# Altium footprint library WS100.PcbLib: 58 footprints (part 2 of 4)
Each footprint in its own frame and in the unit in brackets; x right, y up, seen from the top. Pads: shape width x height; smd on the part's side, far side on the other; paste and mask are expansions set on the pad; w line width, h text height; cw(c..) or ccw(c..) is an arc to the next point about the centre after c.
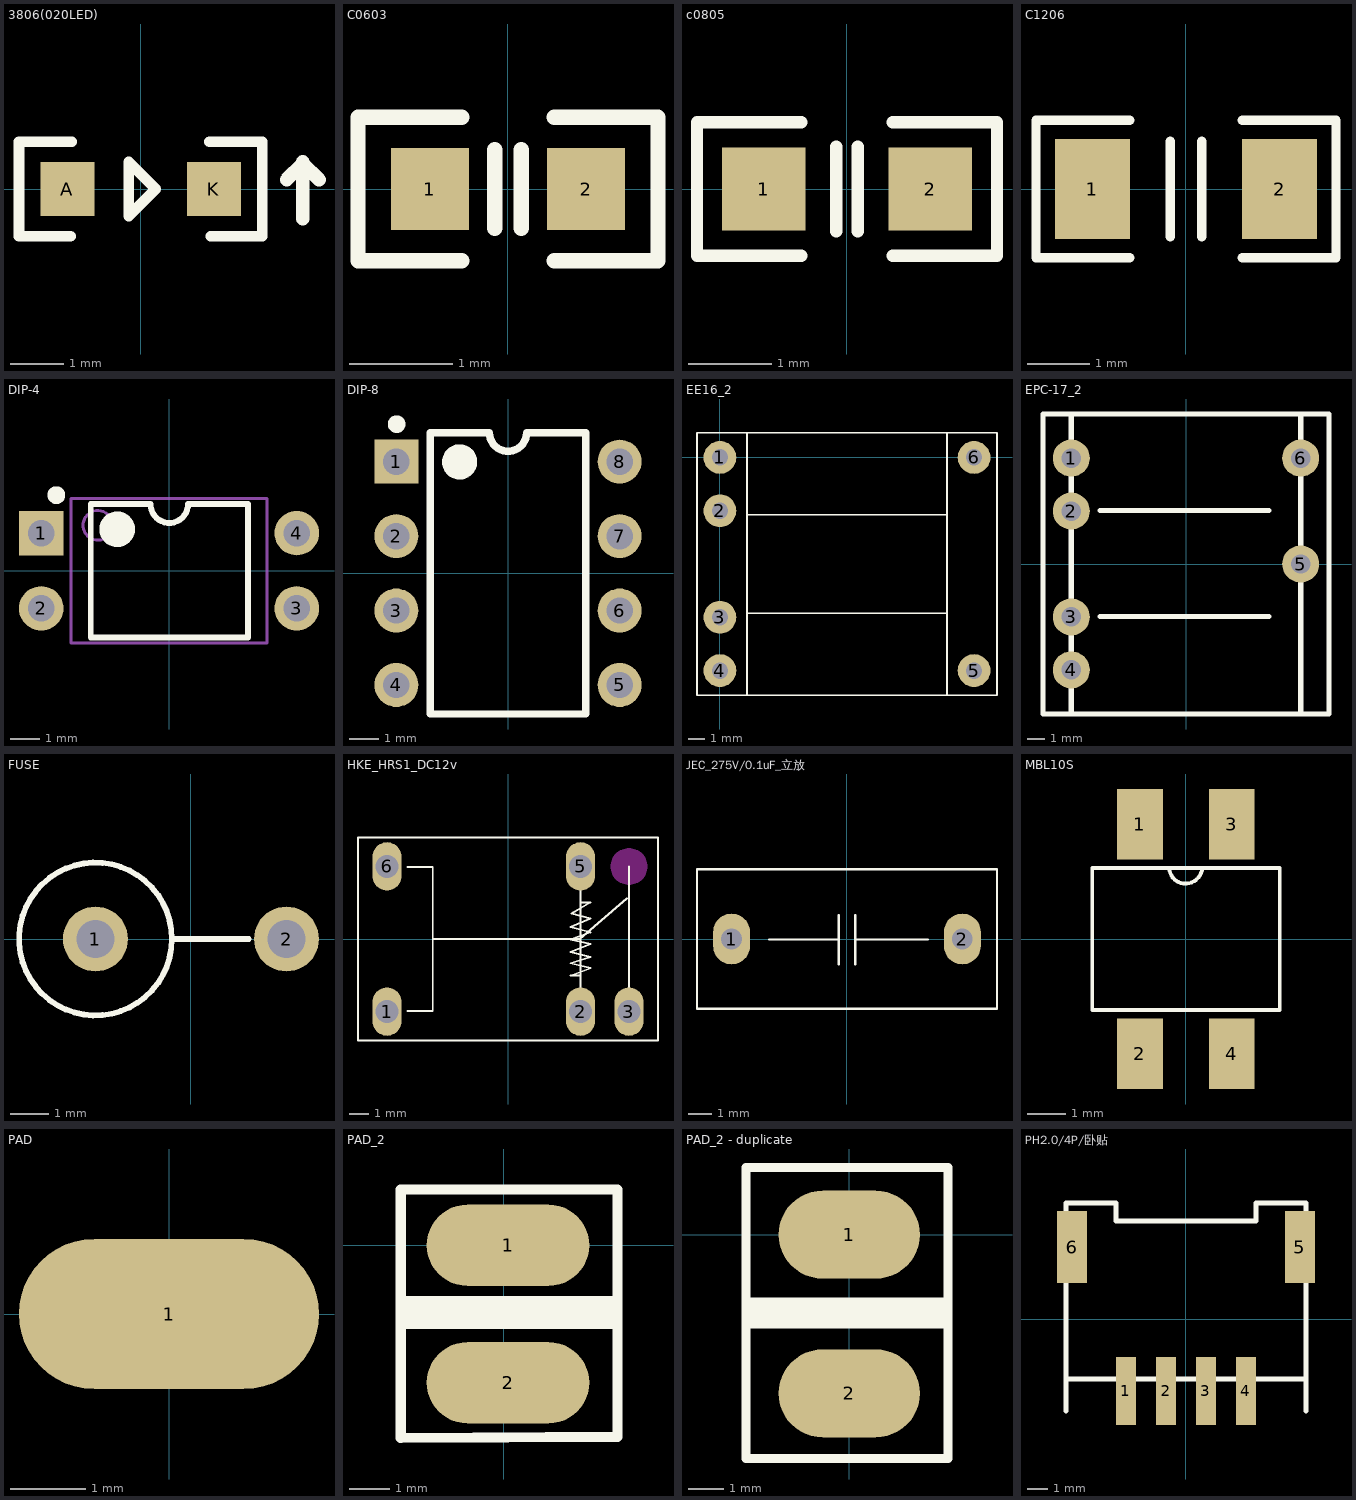
[diagram p1: the footprints below, top view; thin cyan lines are the x and y axes]

## 3806(020LED) [mil]
pads (2):
  rect 40x40 smd: A(-54.13,0) K(54.13,0)
Top Overlay:
  lines w7.87: -51.87,-35 -90,-35 -90,35 -50.87,35 ; 50.87,35 90,35 90,-35 51.87,-35 ; -8.87,-20 -8.87,20 11.13,0 -8.87,-20
  lines w10: 107.87,7 119.87,19 ; 119.87,-22 119.87,20 119.87,19 ; 131.87,7 119.87,19

## C0603 [mm]
pads (2):
  rect 0.76x0.8 smd: 1(-0.76,0) 2(0.76,0)
Top Overlay:
  lines w0.15: -0.45,-0.7 -1.46,-0.7 -1.46,0.7 -0.45,0.7 ; -0.127,-0.381 -0.127,0.381 ; 0.127,-0.381 0.127,0.381 ; 0.45,-0.7 1.46,-0.7 1.46,0.7 0.45,0.7

## c0805 [mm]
pads (2):
  rect 1x1 smd: 1(-1,0) 2(1,0)
Top Overlay:
  lines w0.15: -0.55,-0.8 -1.8,-0.8 -1.8,0.8 -0.55,0.8 ; -0.127,-0.508 -0.127,0.508 ; 0.127,-0.508 0.127,0.508 ; 0.55,-0.8 1.8,-0.8 1.8,0.8 0.55,0.8

## C1206 [mm]
pads (2):
  rect 1.2x1.6 smd: 1(-1.5,0) 2(1.5,0)
Top Overlay:
  lines w0.15: -0.9,-1.1 -2.4,-1.1 -2.4,1.1 -0.9,1.1 ; -0.254,-0.762 -0.254,0.762 ; 0.254,-0.762 0.254,0.762 ; 0.9,-1.1 2.4,-1.1 2.4,1.1 0.9,1.1

## DIP-4 [mm]
pads (4):
  rect 1.5x1.5 hole 0.9: 1(-4.31,1.27)
  round 1.5 hole 0.9: 2(-4.31,-1.27) 3(4.31,-1.27) 4(4.31,1.27)
Top Overlay:
  circle w0.3: c-3.8,2.55 r0.15
  circle w0.6: c-1.75,1.4 r0.3
  lines w0.2: -2.64,-2.25 2.66,-2.25 2.66,2.25 0.645,2.25 cw(c0.01,2.25) -0.625,2.25 -2.64,2.25 -2.64,-2.25
Mechanical 13:
  circle w0.1: c-2.4,1.53 r0.5
  lines w0.1: -3.3,-2.43 -3.3,2.43 3.3,2.43 3.3,-2.43 ; -3.29,-2.43 3.31,-2.43

## DIP-8 [mm]
pads (8):
  rect 1.5x1.5 hole 0.9: 1(-3.81,3.81)
  round 1.5 hole 0.9: 2(-3.81,1.27) 3(-3.81,-1.27) 4(-3.81,-3.81) 5(3.81,-3.81) 6(3.81,-1.27) 7(3.81,1.27) 8(3.81,3.81)
Top Overlay:
  circle w0.6: c-1.65,3.8 r0.3
  circle w0.3: c-3.8,5.09 r0.15
  lines w0.254: -2.65,-4.8 2.65,-4.8 2.65,4.8 0.635,4.8 cw(c0,4.8) -0.635,4.8 -2.65,4.8 -2.65,-4.8
3D body "SW3dPS-DIP08-300.STEP": height 5.08, standoff -2.49, extent -3.935,-5.46 3.935,5.46

## EE16_2 [mm]
pads (6):
  round 2 hole 1: 1(0,0) 2(0,-3.25) 3(0,-9.75) 4(0,-13) 5(15.5,-13) 6(15.5,0)
Top Overlay:
  lines w0.1: 1.651,-14.478 1.651,1.5 1.778,1.5 ; 1.651,-9.495 13.843,-9.495 ; 1.651,-3.505 13.843,-3.505 ; 13.849,-14.478 13.849,1.5 ; -1.4,-14.5 0,-14.5 15.5,-14.5 16.9,-14.5 16.9,0 16.9,1.5 -1.4,1.5 -1.4,-14.5

## EPC-17_2 [mm]
pads (6):
  round 2.1 hole 1.1: 1(-6.5,6) 2(-6.5,3) 3(-6.5,-3) 4(-6.5,-6) 5(6.5,0) 6(6.5,6)
Top Overlay:
  lines w0.1: -6.5,6 -6.068,6
  lines w0.3: -6.602,-8.5 6.5,-8.5 ; -4.874,-2.972 4.701,-2.972 ; -4.874,3.028 4.701,3.028 ; -6.5,8.5 6.5,8.5 ; -6.5,8.5 -8.1,8.5 -8.1,-8.5 -6.5,-8.5 -6.5,0 -6.5,8.5 ; 6.5,-8.5 8.1,-8.5 8.1,8.5 6.5,8.5 ; 6.5,-8.5 6.5,0 6.5,8.5

## FUSE [mm]
pads (2):
  round 1.7 hole 1: 1(-2.5,0) 2(2.5,0)
Top Overlay:
  circle w0.15: c-2.5,0 r2
  lines w0.15: -0.5,0 1.513,0

## HKE_HRS1_DC12v [mm]
pads (5):
  oval 1.5x2.5 hole 1.2: 1(-6.25,-3.75) 2(3.75,-3.75) 3(6.25,-3.75) 5(3.75,3.75) 6(-6.25,3.75)
Top Overlay:
  lines w0.1: -5.183,-3.725 -3.888,-3.725 -3.888,3.725 -5.183,3.725 ; -3.888,0 3.716,0 6.145,2.092 ; 3.75,-3.75 3.75,3.75 ; 3.75,-1.896 3.234,-1.896 4.266,-1.508 3.234,-1.254 4.266,-0.924 3.234,-0.67 4.266,-0.263 3.234,-0.035 4.266,0.346 3.234,0.626 4.266,1.058 3.275,1.312 4.266,1.896 3.75,1.896 ; 6.25,-3.75 6.25,3.747 ; -7.75,-5.25 7.75,-5.25 7.75,5.25 -7.75,5.25 -7.75,-5.25
Keep-Out Layer:
  board cut-out: 5.314,3.747 5.314,3.655 5.35,3.474 5.421,3.304 5.523,3.15 5.654,3.02 5.807,2.918 5.977,2.847 6.158,2.811 6.25,2.811 6.342,2.811 6.523,2.847 6.693,2.918 6.846,3.02 6.977,3.15 7.079,3.304 7.15,3.474 7.186,3.655 7.186,3.747 7.186,3.839 7.15,4.02 7.079,4.19 6.977,4.343 6.846,4.474 6.693,4.576 6.523,4.646 6.342,4.682 6.25,4.682 6.158,4.682 5.977,4.646 5.807,4.576 5.654,4.474 5.523,4.343 5.421,4.19 5.35,4.02 5.314,3.839

## JEC_275V/0.1uF_立放 [mm]
pads (2):
  oval 1.6x2.2 hole 0.9: 1(-5,0) 2(5,0)
Top Overlay:
  lines w0.1: -3.378,-0.025 -0.356,-0.025 ; -0.356,-1.092 -0.356,1.041 ; 0.356,-1.092 0.356,1.041 ; 0.356,-0.025 3.505,-0.025 ; -6.498,-3.023 6.502,-3.023 6.502,3.023 -6.498,3.023 -6.498,-3.023

## MBL10S [mm]
pads (4):
  rect 1.2x1.84 smd: 1(-1.2,3) 2(-1.2,-3) 3(1.2,3) 4(1.2,-3)
Top Overlay:
  lines w0.1: -0.432,1.854 ccw(c-0.013,1.867) 0,1.448 ; -0.051,1.448 ccw(c-0.013,1.892) 0.432,1.854 ; -2.445,-1.854 2.455,-1.854 2.455,1.854 -2.445,1.854 -2.445,-1.854

## PAD [mm]
pads (1):
  oval 4x2 smd: 1(0,0)

## PAD_2 [mm]
pads (2):
  oval 4x2 smd: 1(0.102,0) 2(0.102,-3.378)
Top Overlay:
  rectangle: -2.591,-2.057 2.794,-1.245
  lines w0.254: -2.54,-4.737 -2.54,0.356 -2.54,1.372 1.626,1.372 2.794,1.372 2.794,-4.711 -2.54,-4.737

## PAD_2 - duplicate [mm]
pads (2):
  oval 4x2.5 smd: 1(0,0) 2(0,-4.5)
Top Overlay:
  rectangle: -2.921,-2.667 2.794,-1.778
  lines w0.254: -2.921,-6.35 -2.921,-6.096 -2.921,0.381 -2.921,1.905 2.159,1.905 2.794,1.905 2.794,-6.35 -2.921,-6.35

## PH2.0/4P/卧贴 [mm]
pads (6):
  rect 1x3.4 smd: 1(-3,-3.596) 2(-1,-3.596) 3(1,-3.596) 4(3,-3.596)
  rect 1.5x3.6 smd: 5(5.7,3.596) 6(-5.7,3.596)
Top Overlay:
  lines w0.254: -6,-4.596 -6,5.802 -3.508,5.802 -3.508,4.913 3.5,4.913 3.5,5.802 5.992,5.802 5.992,-4.596 ; -6,-2.996 5.941,-2.996